# EAGLE library part LM386_AUDIO_AMP_MODULE (library hridhay_components)
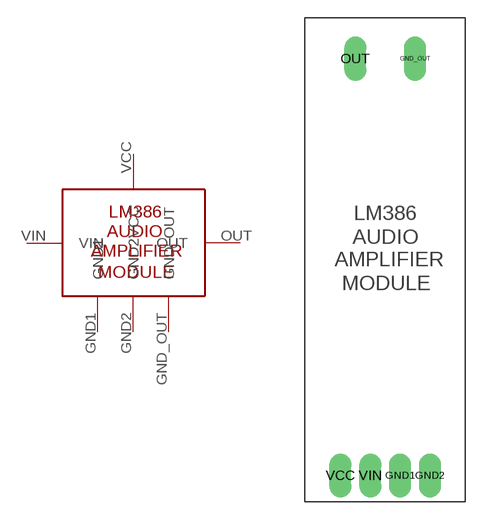
[diagram p0: symbol with the pads of LM386_AUDIO_AMP_MODULE; footprint LM386_AUDIO_AMP_MODULE]

Designator prefix -

## LM386_AUDIO_AMP_MODULE  [LM386_AUDIO_AMP_MODULE]
GND1  GND1
GND2  GND2
GND_OUT  GND_OUT
OUT  OUT
VCC  VCC
VIN  VIN

## Footprint LM386_AUDIO_AMP_MODULE (pad centres in mm)
3-pin 0.1"-Pitch header Specifications: Pin Count: 3 Pitch: 0.1 in. (2.54 mm) Devices Using: LOAD_CELL
drill 1.016 pad 1.88 long: GND1 8.13,0; GND2 10.67,0; GND_OUT 9.4,35.5; OUT 4.32,35.5; VCC 3.05,0; VIN 5.59,0